# EAGLE library part BUFFER_TRISTATE-2X4BIT (library CougsInSpace-IC-Logic)
Buffer Tri-State - 2x4b SN74LVC244AR <https://github.com/CougsInSpace/Resources/blob/master/SupplierDocuments/Ti/SN74LVC244A_TristateBuffer2x4bits.pdf>
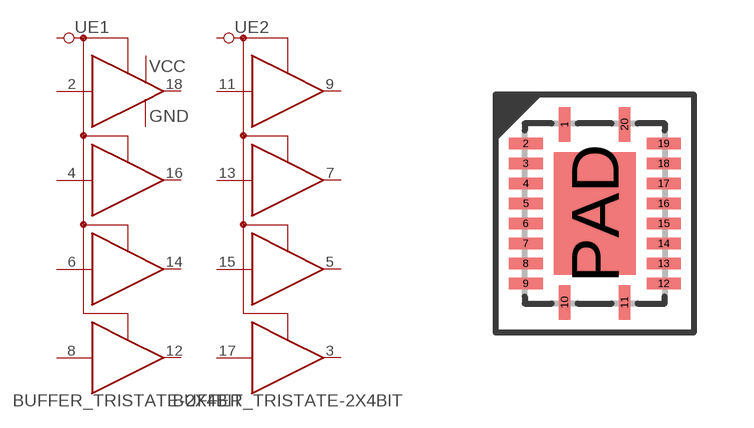
[diagram p1: symbol with the pads of QFN-20-3545; footprint QFN-20-3545]

Designator prefix U; gates E1=BUFFER_TRISTATE-4BIT-POWER E2=BUFFER_TRISTATE-4BIT

## BUFFER_TRISTATE-2X4BIT-QFN (SKU: 28-0003; VALUE: SN74LVC244AR)  [QFN-20-3545]
1  E1:!EN  in
2  E1:A1  in
3  E2:Y4  hiz
4  E1:A2  in
5  E2:Y3  hiz
6  E1:A3  in
7  E2:Y2  hiz
8  E1:A4  in
9  E2:Y1  hiz
10  E1:GND  pwr
11  E2:A1  in
12  E1:Y4  hiz
13  E2:A2  in
14  E1:Y3  hiz
15  E2:A3  in
16  E1:Y2  hiz
17  E2:A4  in
18  E1:Y1  hiz
19  E2:!EN  in
20  E1:VCC  pwr
PAD  E1:GND  pwr

## Footprint QFN-20-3545 (pad centres in mm)
Quad Flat No-Leads (QFN) - 20 Pins - 3.5 x 4.5 mm
smd 0.28 x 0.85: 1 -0.75,2.225; 10 -0.75,-2.225; 11 0.75,-2.225; 20 0.75,2.225
smd 0.85 x 0.28: 2 -1.725,1.75; 3 -1.725,1.25; 4 -1.725,0.75; 5 -1.725,0.25; 6 -1.725,-0.25; 7 -1.725,-0.75; 8 -1.725,-1.25; 9 -1.725,-1.75; 12 1.725,-1.75; 13 1.725,-1.25; 14 1.725,-0.75; 15 1.725,-0.25; 16 1.725,0.25; 17 1.725,0.75; 18 1.725,1.25; 19 1.725,1.75
smd 2.05 x 3.05: PAD 0,0